# Altium integrated library PMIC-DDR TERMINATION REG.IntLib: 3 symbols
Pins are listed as number, name and electrical type; pins without a type are passive.

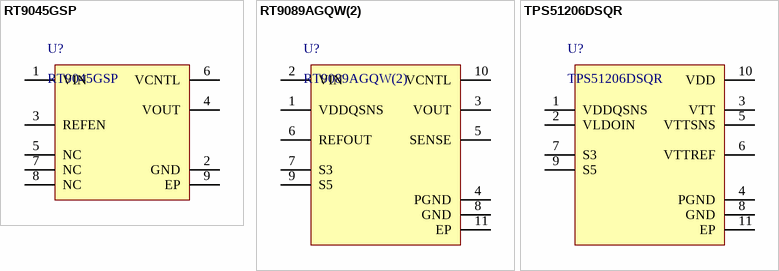
[diagram p0: symbols RT9045GSP to TPS51206DSQR]

## RT9045GSP
designator U?
RT9045 Series 5.5 V Cost-Effective Sink/Source Bus Termination Regulator-SOP-8EP; Manufacturer: Richtek; Max Supply Voltage: 5.5V; Min Input Voltage: 1V; Number of Circuits: 1; Output Current: 1.8A; Supplier: DigiKey; Supplier Part Number: 1028-1178-1-ND; Manufacturer Part Number: RT9045GSP; RoHS: Compliant; Category: Integrated Circuits (ICs); Stock: 3882; Pricing: 1=0,44, 10=0,31, 25=0,2764, 100=0,2394, 250=0,22176, 500=0,21114, 1000=0,20241 (USD); Case/Package: SOIC; Height - Seated (Max): 1.75mm; Lead Free: Lead Free; Length: 4.9mm; Lifecycle Status: Production; Max Operating Temperature: 85°C; Min Operating Temperature: -40°C; Mounting Technology: Surface Mount; Number of Outputs: 1; Pins: 8; Number of Terminals: 8; REACH SVHC: Yes; Terminal Pitch: 1.27mm; Width: 3.9mm; ComponentLink1URL: https://datasheet.octopart.com:443/RT9045GSP-Richtek-datasheet-181204247.pdf?src-supplier=IHS; ComponentLink1Description: https://datasheet.octopart.com:443/RT9045GSP-Richtek-datasheet-181204247.pdf?src-supplier=IHS; ComponentLink2URL: https://datasheet.octopart.com:443/RT9045GSP-Richtek-datasheet-134532633.pdf?src-supplier=Augswan; ComponentLink2Description: https://datasheet.octopart.com:443/RT9045GSP-Richtek-datasheet-134532633.pdf?src-supplier=Augswan; ComponentLink3URL: https://datasheet.octopart.com:443/RT9045GSP-Richtek-datasheet-21405062.pdf?src-supplier=Farnell; ComponentLink3Description: https://datasheet.octopart.com:443/RT9045GSP-Richtek-datasheet-21405062.pdf?src-supplier=Farnell; ComponentLink4URL: https://datasheet.octopart.com:443/RT9045GSP-Richtek-datasheet-26371552.pdf?src-supplier=Future+Electronics; ComponentLink4Description: https://datasheet.octopart.com:443/RT9045GSP-Richtek-datasheet-26371552.pdf?src-supplier=Future+Electronics; ComponentLink5URL: https://datasheet.octopart.com:443/RT9045GSP-Richtek-datasheet-21255522.pdf?src-supplier=Future+Electronics; ComponentLink5Description: https://datasheet.octopart.com:443/RT9045GSP-Richtek-datasheet-21255522.pdf?src-supplier=Future+Electronics
footprint SOP127P600-8N
pins: 1 VIN, 2 GND, 3 REFEN, 4 VOUT, 5 NC, 6 VCNTL, 7 NC, 8 NC, 9 EP

## RT9089AGQW(2)
designator U?
Ddr Termination Regulator, 2A, WDFN-10; Manufacturer: Richtek; Number of Circuits: 1; Output Type: Fixed; Supplier: DigiKey; Supplier Part Number: 1028-RT9089AGQW(2)CT-ND; Manufacturer Part Number: RT9089AGQW(2); RoHS: Compliant; Category: Integrated Circuits (ICs); Stock: 5031; Pricing: 1=0,65, 10=0,458, 25=0,4104, 100=0,3583, 250=0,33348, 500=0,31852, 1000=0,30619 (USD); Height - Seated (Max): 800µm; Length: 2mm; Lifecycle Status: Production; Max Operating Temperature: 85°C; Min Operating Temperature: -40°C; Number of Outputs: 1; Number of Terminals: 10; Output Current: 2A; REACH SVHC: Yes; Terminal Pitch: 400µm; Width: 2mm; ComponentLink1URL: https://datasheet.octopart.com:443/RT9089AGQW%282%29-Richtek-datasheet-181204278.pdf?src-supplier=IHS; ComponentLink1Description: https://datasheet.octopart.com:443/RT9089AGQW%282%29-Richtek-datasheet-181204278.pdf?src-supplier=IHS; ComponentLink2URL: https://datasheet.octopart.com:443/RT9089AGQW%282%29-Richtek-datasheet-158446456.pdf?src-supplier=SHENGYU+ELECTRONICS; ComponentLink2Description: https://datasheet.octopart.com:443/RT9089AGQW%282%29-Richtek-datasheet-158446456.pdf?src-supplier=SHENGYU+ELECTRONICS
footprint SON40P200X80_HS-11N-RITCHTEK (SON, 10-Leads, Body 2,00x2,00mm, Pitch 0,40mm, Thermal Pad 1,50x0,79mm, IPC Medium Density)
pins: 1 VDDQSNS, 2 VIN, 3 VOUT, 4 PGND, 5 SENSE, 6 REFOUT, 7 S3, 8 GND, 9 S5, 10 VCNTL, 11 EP

## TPS51206DSQR
designator U?
- Converter, DDR Voltage Regulator IC 1 Output 10-SON (2x2); Manufacturer: Texas Instruments; Output Voltage: 900mV; Max Supply Voltage: 5V; Number of Outputs: 1; Output Current: 2A; Polarity: Positive; Min Input Voltage: 3.1V; Nominal Output Voltage: 40mV; Quiescent Current: 170uA; Output Type: Fixed,Adjustable; Supplier: Digikey; Supplier Part Number: 296-28767-1-ND; Manufacturer Part Number: TPS51206DSQR; RoHS: Yes; Category: Voltage Regulators - Linear; Stock: 15978; Pricing: 1=0,83, 10=0,733, 25=0,6888, 100=0,5622, 250=0,52216, 500=0,4444, 1000=0,35552 (USD); Case/Package: SON; Pins: 10; Min Operating Temperature: -40°C; Max Operating Temperature: 85°C; Package Quantity: 3000; Packaging: Tape and Reel; Max Output current: 2A; Series: -; Reach SVHC Compliant: No; Lead Free: Lead Free; RoHS Compliant: Yes; ComponentLink1URL: https://datasheet.ciiva.com/2077/tps51206-2077883.pdf?src-supplier=Digikey; ComponentLink1Description: https://datasheet.ciiva.com/2077/tps51206-2077883.pdf?src-supplier=Digikey; ComponentLink2URL: https://datasheet.ciiva.com/2077/tps51206-2077884.pdf?src-supplier=Digikey; ComponentLink2Description: https://datasheet.ciiva.com/2077/tps51206-2077884.pdf?src-supplier=Digikey; ComponentLink3URL: https://datasheet.ciiva.com/2077/tps51206-2077885.pdf?src-supplier=Digikey; ComponentLink3Description: https://datasheet.ciiva.com/2077/tps51206-2077885.pdf?src-supplier=Digikey
footprint SON40P200X80_HS-11N (SON, 10-Leads, Body 2,00x2,00mm, Pitch 0,40mm, Thermal Pad 1,50x0,69mm, IPC Medium Density)
pins: 1 VDDQSNS, 2 VLDOIN, 3 VTT, 4 PGND, 5 VTTSNS, 6 VTTREF, 7 S3, 8 GND, 9 S5, 10 VDD, 11 EP